# EAGLE library part CKSR_6-NP (library CKSR_6-NP)
Current Transducer 6A, Low Drift +5V Vs Source: Datasheet <https://www.farnell.com/datasheets/3760989.pdf>
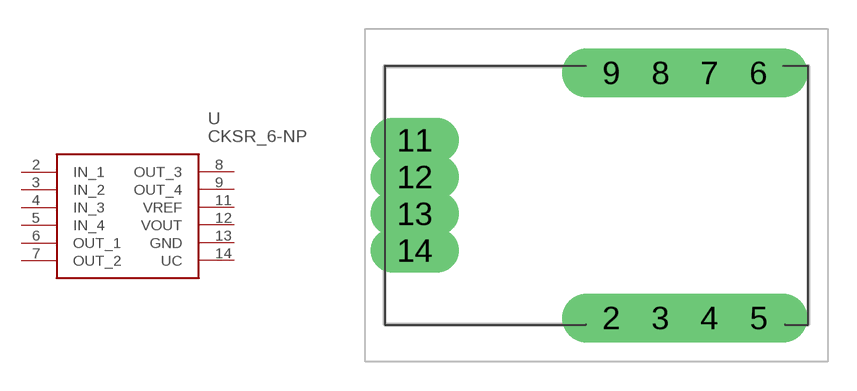
[diagram p0: symbol with the pads of CKSR6NP; footprint CKSR6NP]

Designator prefix U

## CKSR_6-NP (Description: Current Transducer 6A, Low Drift +5V Vs; Height: 16mm; Manufacturer_Name: LEM; Manufacturer_Part_Number: CKSR 6-NP; Mouser_Part_Number: 61-CKSR6-NP; Mouser_Price-Stock: https://www.mouser.co.uk/ProductDetail/LEM/CKSR-6-NP?qs=Vi0JKjFBtYnGKGFrcOKHHQ%3D%3D)  [CKSR6NP]
2  IN_1
3  IN_2
4  IN_3
5  IN_4
6  OUT_1
7  OUT_2
8  OUT_3
9  OUT_4
11  VREF
12  VOUT
13  GND
14  UC

## Footprint CKSR6NP (pad centres in mm)
CKSR 6-NP
drill 1.3 pad 2.54 long: 2 0.765,-6.349; 3 3.305,-6.349; 4 5.845,-6.349; 5 8.385,-6.349; 6 8.385,6.351; 7 5.845,6.351; 8 3.305,6.351; 9 0.765,6.351
drill 0.8 pad 2.3 long: 11 -9.405,2.859; 12 -9.405,0.954; 13 -9.405,-0.951; 14 -9.405,-2.856